# Altium schematic symbol library PartsLib.SchLib: 23 symbols
Pins are listed as number, name and electrical type; pins without a type are passive.

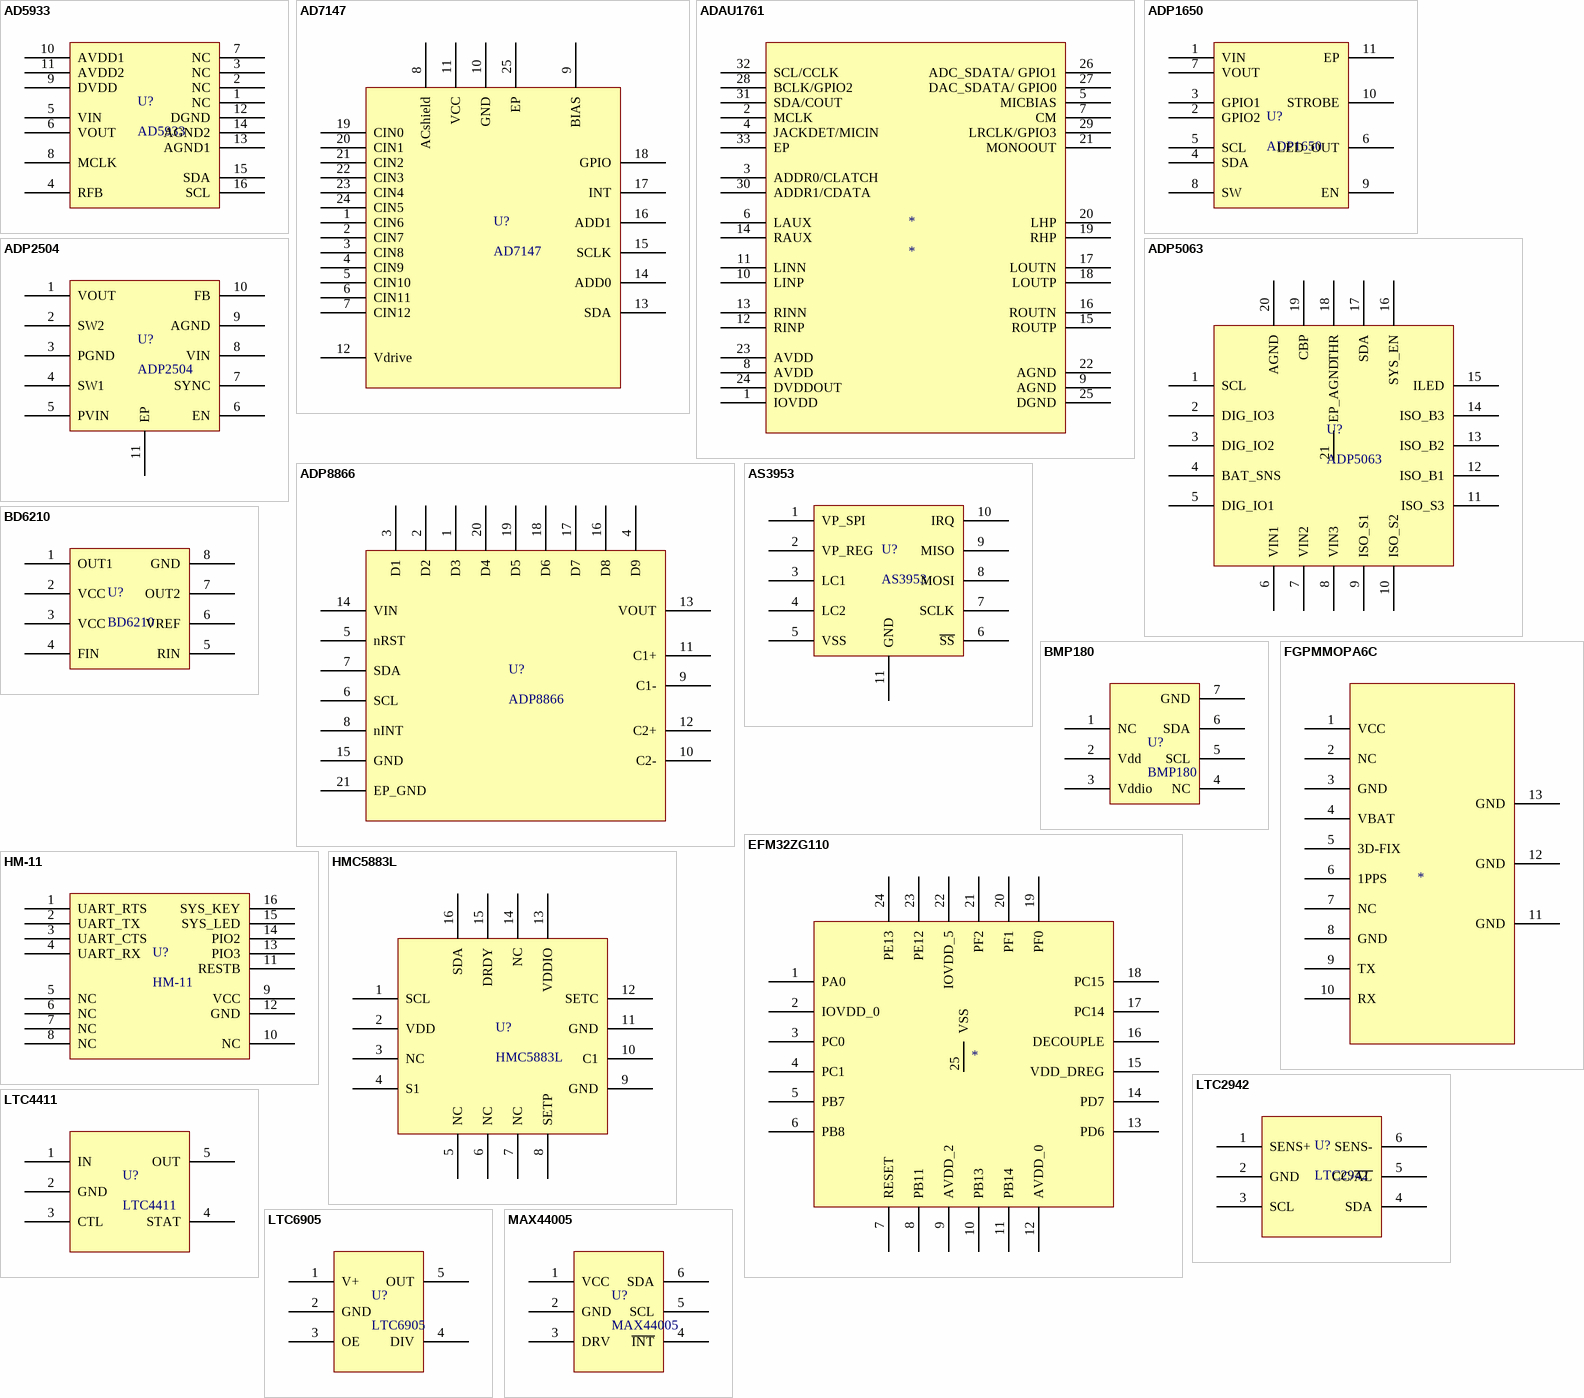
[diagram p0: symbols AD5933 to MAX44005]

## AD5933
designator U?
footprint SSOP16
pins: 1 NC, 2 NC, 3 NC, 4 RFB, 5 VIN, 6 VOUT, 7 NC, 8 MCLK, 9 DVDD, 10 AVDD1, 11 AVDD2, 12 DGND, 13 AGND1, 14 AGND2, 15 SDA, 16 SCL

## AD7147
designator U?
footprint QFN24_4x4
pins: 1 CIN6, 2 CIN7, 3 CIN8, 4 CIN9, 5 CIN10, 6 CIN11, 7 CIN12, 8 ACshield, 9 BIAS, 10 GND, 11 VCC, 12 Vdrive, 13 SDA, 14 ADD0, 15 SCLK, 16 ADD1, 17 INT, 18 GPIO, 19 CIN0, 20 CIN1, 21 CIN2, 22 CIN3, 23 CIN4, 24 CIN5, 25 EP

## ADAU1761
designator *
footprint QFN32
pins: 1 IOVDD (power), 2 MCLK, 3 ADDR0/CLATCH, 4 JACKDET/MICIN, 5 MICBIAS, 6 LAUX, 7 CM, 8 AVDD (power), 9 AGND, 10 LINP, 11 LINN, 12 RINP, 13 RINN, 14 RAUX, 15 ROUTP, 16 ROUTN, 17 LOUTN, 18 LOUTP, 19 RHP, 20 LHP, 21 MONOOUT, 22 AGND, 23 AVDD (power), 24 DVDDOUT (power), 25 DGND, 26 ADC_SDATA/ GPIO1, 27 DAC_SDATA/ GPIO0, 28 BCLK/GPIO2, 29 LRCLK/GPIO3, 30 ADDR1/CDATA, 31 SDA/COUT, 32 SCL/CCLK, 33 EP

## ADP1650
designator U?
footprint LFCSP10_3x3
pins: 1 VIN, 2 GPIO2, 3 GPIO1, 4 SDA, 5 SCL, 6 LED_OUT, 7 VOUT, 8 SW, 9 EN, 10 STROBE, 11 EP

## ADP2504
designator U?
footprint DFN10_3x3x0.5
pins: 1 VOUT, 2 SW2, 3 PGND, 4 SW1, 5 PVIN, 6 EN, 7 SYNC, 8 VIN, 9 AGND, 10 FB, 11 EP

## ADP5063
designator U?
footprint QFN20_4x4x0.5
pins: 1 SCL, 2 DIG_IO3, 3 DIG_IO2, 4 BAT_SNS, 5 DIG_IO1, 6 VIN1, 7 VIN2, 8 VIN3, 9 ISO_S1, 10 ISO_S2, 11 ISO_S3, 12 ISO_B1, 13 ISO_B2, 14 ISO_B3, 15 ILED, 16 SYS_EN, 17 SDA, 18 THR, 19 CBP, 20 AGND, 21 EP_AGND

## ADP8866
designator U?
footprint QFN20_4x4x0.5
pins: 1 D3, 2 D2, 3 D1, 4 D9, 5 nRST, 6 SCL, 7 SDA, 8 nINT, 9 C1-, 10 C2-, 11 C1+, 12 C2+, 13 VOUT, 14 VIN, 15 GND, 16 D8, 17 D7, 18 D6, 19 D5, 20 D4, 21 EP_GND

## AS3953
designator U?
footprint DFN10_3x3x0.5
pins: 1 VP_SPI, 2 VP_REG, 3 LC1, 4 LC2, 5 VSS, 6 ~{SS}, 7 SCLK, 8 MOSI, 9 MISO, 10 IRQ, 11 GND

## BD6210
designator U?
pins: 1 OUT1, 2 VCC, 3 VCC, 4 FIN, 5 RIN, 6 VREF, 7 OUT2, 8 GND

## BMP180
designator U?
footprint BMP180
pins: 1 NC, 2 Vdd, 3 Vddio, 4 NC, 5 SCL, 6 SDA, 7 GND

## EFM32ZG110
designator *
footprint QFN24_5x5_0.65
pins: 1 PA0, 2 IOVDD_0, 3 PC0, 4 PC1, 5 PB7, 6 PB8, 7 RESET, 8 PB11, 9 AVDD_2, 10 PB13, 11 PB14, 12 AVDD_0, 13 PD6, 14 PD7, 15 VDD_DREG, 16 DECOUPLE, 17 PC14, 18 PC15, 19 PF0, 20 PF1, 21 PF2, 22 IOVDD_5, 23 PE12, 24 PE13, 25 VSS

## FGPMMOPA6C
designator *
pins: 1 VCC, 2 NC, 3 GND, 4 VBAT, 5 3D-FIX, 6 1PPS, 7 NC, 8 GND, 9 TX, 10 RX, 11 GND, 12 GND, 13 GND

## HM-11
designator U?
footprint HM-11
pins: 1 UART_RTS, 2 UART_TX, 3 UART_CTS, 4 UART_RX, 5 NC, 6 NC, 7 NC, 8 NC, 9 VCC, 10 NC, 11 RESTB, 12 GND, 13 PIO3, 14 PIO2, 15 SYS_LED, 16 SYS_KEY

## HMC5883L
designator U?
footprint QFN16_3x3x0.5_noPad
pins: 1 SCL, 2 VDD, 3 NC, 4 S1, 5 NC, 6 NC, 7 NC, 8 SETP, 9 GND, 10 C1, 11 GND, 12 SETC, 13 VDDIO, 14 NC, 15 DRDY, 16 SDA

## LTC2942
designator U?
footprint DCB 6-Lead 2x3mm
pins: 1 SENS+, 2 GND, 3 SCL, 4 SDA, 5 CC/~{AL}, 6 SENS-

## LTC4411
designator U?
footprint SOT23-5
pins: 1 IN, 2 GND, 3 CTL, 4 STAT, 5 OUT

## LTC6905
designator U?
pins: 1 V+, 2 GND, 3 OE, 4 DIV, 5 OUT

## MAX44005
designator U?
pins: 1 VCC, 2 GND, 3 DRV, 4 ~{INT}, 5 SCL, 6 SDA

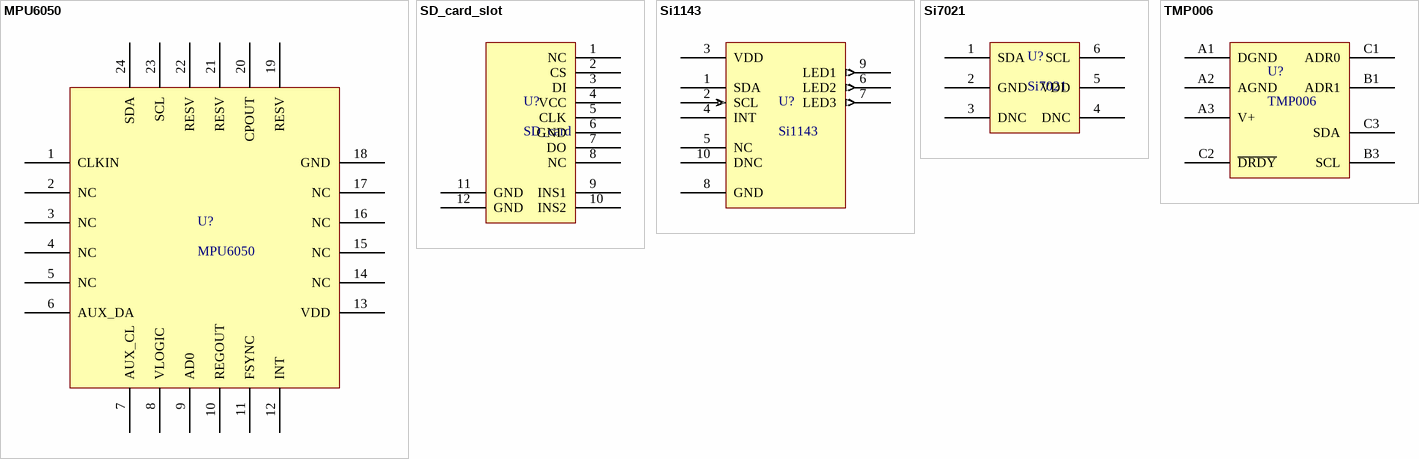
[diagram p1: symbols MPU6050 to TMP006]

## MPU6050
designator U?
footprint QFN24_4x4
pins: 1 CLKIN, 2 NC, 3 NC, 4 NC, 5 NC, 6 AUX_DA, 7 AUX_CL, 8 VLOGIC, 9 AD0, 10 REGOUT, 11 FSYNC, 12 INT, 13 VDD, 14 NC, 15 NC, 16 NC, 17 NC, 18 GND, 19 RESV, 20 CPOUT, 21 RESV, 22 RESV, 23 SCL, 24 SDA

## SD_card_slot
designator U?, comment SD_card
footprint SD_card_slot
pins: 1 NC, 2 CS, 3 DI, 4 VCC, 5 CLK, 6 GND, 7 DO, 8 NC, 9 INS1, 10 INS2, 11 GND, 12 GND

## Si1143
designator U?
footprint Si1143
pins: 1 SDA, 2 SCL (in), 3 VDD (power), 4 INT, 5 NC, 6 LED2 (out), 7 LED3 (out), 8 GND (power), 9 LED1 (out), 10 DNC

## Si7021
designator U?
footprint Si7021
pins: 1 SDA, 2 GND, 3 DNC, 4 DNC, 5 VDD, 6 SCL

## TMP006
designator U?
footprint BGA8x3_
pins: A1 DGND, A2 AGND, A3 V+, B1 ADR1, B3 SCL, C1 ADR0, C2 ~{DRDY}, C3 SDA